# Altium footprint library WIRE_WOUND_Test.PcbLib: 22 footprints (part 2 of 2)
Each footprint in its own frame and in the unit in brackets; x right, y up, seen from the top. Pads: shape width x height; smd on the part's side, far side on the other; paste and mask are expansions set on the pad; w line width, h text height; cw(c..) or ccw(c..) is an arc to the next point about the centre after c.
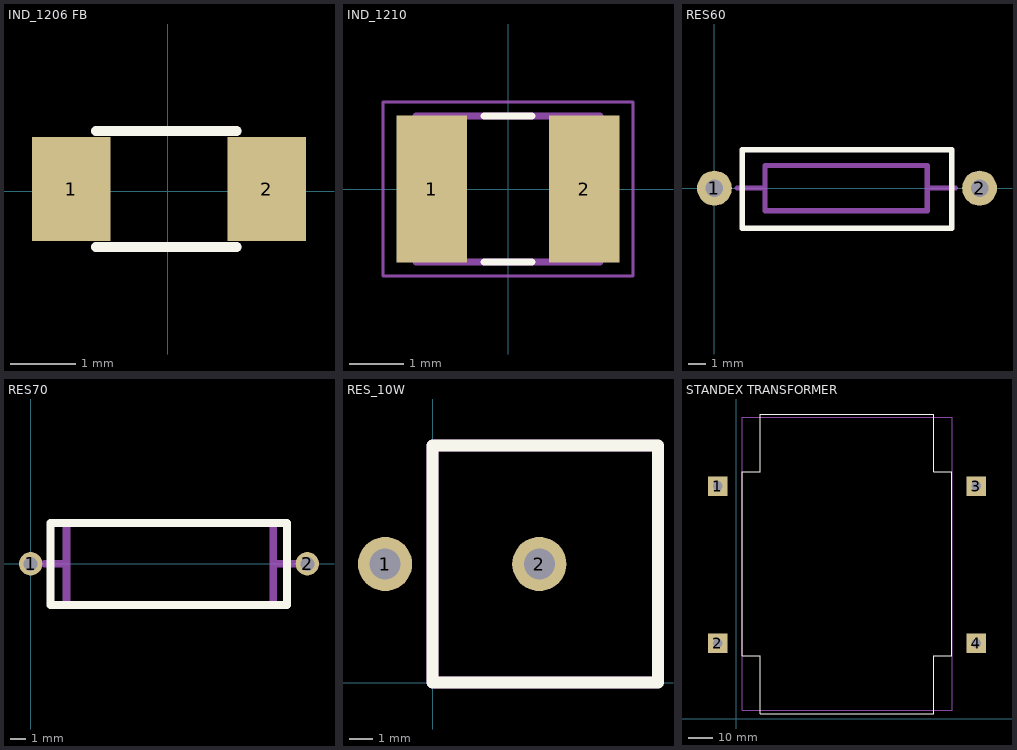
[diagram p1: the footprints below, top view; thin cyan lines are the x and y axes]

## IND_1206 FB [mm]
pads (2):
  rect 1.2x1.6 smd: 1(-1.478,0.036) 2(1.522,0.036)
Top Overlay:
  lines w0.15: -1.097,-0.853 1.062,-0.853 ; -1.097,0.925 1.062,0.925
Mechanical 29:
  lines w0.15: -1.097,-0.853 1.062,-0.853 ; -1.097,0.925 1.062,0.925
  text "'.Designator'" at -1.224,-0.122 h0.51
3D body "ferrite_bead_1206.STEP": height 1.1, standoff 0, extent -1.524,-0.769 1.676,0.831

## IND_1210 [mm]
pads (2):
  rect 1.3x2.72 smd: 1(-1.41,0) 2(1.41,0)
Top Overlay:
  lines w0.127: -0.44,-1.35 0.44,-1.35 ; -0.44,1.35 0.44,1.35
Mechanical 15:
  lines w0.05: -2.308,-1.608 2.308,-1.608 2.308,1.608 -2.308,1.608 -2.308,-1.608
Mechanical 29:
  lines w0.127: -1.7,-1.35 -1.7,1.35 ; -1.7,-1.35 1.7,-1.35 ; -1.7,-1.35 1.7,-1.35 ; -1.7,-1.35 -1.7,1.35 ; -1.7,1.35 1.7,1.35 ; -1.7,1.35 1.7,1.35 ; 1.7,-1.35 1.7,1.35 ; 1.7,-1.35 1.7,1.35
  text "'.Designator'" at -1.524,-0.186 h0.51
3D body "IND_TAIYO_CBC3225.step": height 2.71, standoff 0.01, extent -1.727,-1.349 1.727,1.349

## RES60 [mm]
pads (2):
  round 2 hole 1: 1(0,0) 2(15.2,0)
Top Overlay:
  lines w0.3: 1.6,-2.3 1.6,2.2 13.6,2.2 13.6,-2.3 1.6,-2.3
Mechanical 29:
  lines w0.3: 1.3,0 2.9,0 ; 12.2,0 13.8,0 ; 2.9,0 2.9,1.3 12.2,1.3 12.2,-1.3 2.9,-1.3 2.9,0
  text "'.Designator'" at 3.9,-0.418 h1.5
3D body "User Library-Res60 1W SilCoat Master.STEP": height 2.52, standoff -4, extent -0.395,-2.25 15.595,2.25

## RES70 [mm]
pads (2):
  round 1.5 hole 0.9: 1(0,0) 2(17.8,0)
Top Overlay:
  lines w0.5: 1.275,-2.65 1.275,2.625 16.5,2.625 16.5,-1.2 16.5,-2.65 1.275,-2.65
Mechanical 29:
  lines w0.5: 0.9,0 2.3,0 ; 15.6,0 17,0 ; 2.3,0 2.3,-2.65 15.6,-2.65 15.6,2.625 2.3,2.625 2.3,0
  text "'.Designator'" at 4.185,-0.534 h2
3D body "User Library-one watt_resistor_700spacing-1.STEP": height 6.5, standoff -4, extent -0.39,-2.996 18.19,2.996

## RES_10W [mm]
pads (2):
  round 2.286 hole 1.3: 1(-2,5) 2(4.5,5)
Top Overlay:
  lines w0.5: 9.45,0 0,0 0,10 9.45,10 ; 9.5,0 9.5,10
Mechanical 29:
  lines w0.5: 9.45,0 0,0 0,10 9.45,10 ; 9.5,0 9.5,10
  text "'.Designator'" at 0.4,7.238 h1.8
3D body "10W_Res.STEP": height 54.3, standoff -3.3, extent -2.292,0 9.092,10

## STANDEX TRANSFORMER [mm]
pads (4):
  rect 8x8 hole 4 square: 1(-7.5,94.3) 2(-7.5,30.7) 3(97.2,94.3) 4(97.2,30.7)
Top Overlay:
  lines w0.5: 2.375,25.55 9.7,25.55 9.7,2.025 80,2.025 80,25.55 87.375,25.55 87.375,100.2 80,100.2 80,123.525 9.7,123.525 9.7,100.2 2.375,100.2 2.375,25.55
Mechanical 29:
  lines w0.5: 2.375,3.5 2.375,122.25 87.375,122.25 87.375,3.5 2.375,3.5
  text "'.Designator'" at 43.679,92 h10
3D body "PQC2449_3D.STEP": height 44, standoff -11, extent -10.5,3.845 100.496,121.955